# Altium footprint library Enc_Panasonic_EVQ-V4300418B_eec_0.PcbLib: 1 footprints
Each footprint in its own frame and in the unit in brackets; x right, y up, seen from the top. Pads: shape width x height; smd on the part's side, far side on the other; paste and mask are expansions set on the pad; w line width, h text height; cw(c..) or ccw(c..) is an arc to the next point about the centre after c.
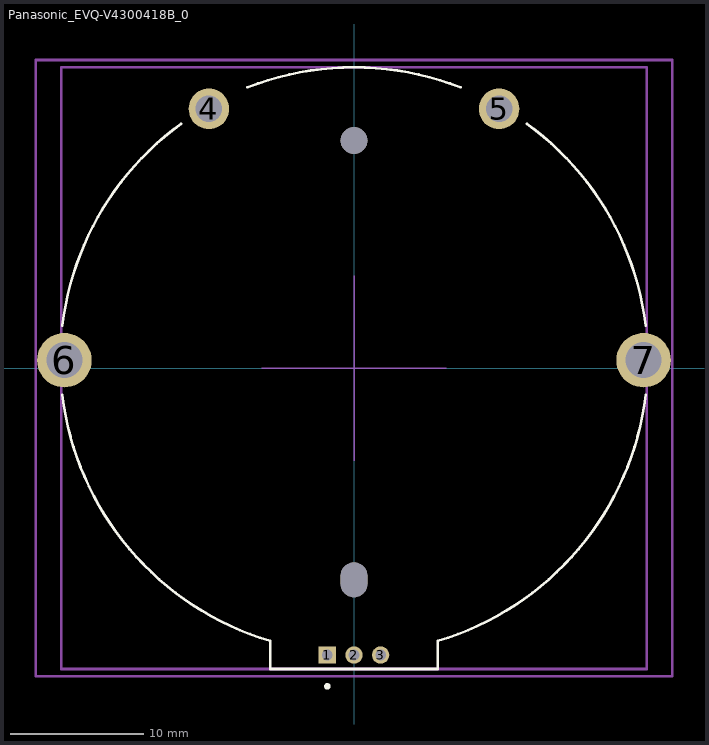
[diagram p0: the footprint, top view; thin cyan lines are the x and y axes]

## Panasonic_EVQ-V4300418B_0 [mm]
pads (9):
  rect 1.3x1.3 hole 0.8 paste-1000 mask+0: 1(-2,-21.55)
  round 1.3 hole 0.8 paste-1000 mask+0: 2(0,-21.55) 3(2,-21.55)
  round 3.05 hole 2 paste-1000 mask+0: 4(-10.9,19.479) 5(10.9,19.479)
  round 4.1 hole 2.7 paste-1000 mask+0: 6(-21.75,0.6) 7(21.75,0.6)
  rrect100% 2x2.6 hole 2.6 slot 2 at 0 deg unplated paste-1000 mask+0: ""(0,-15.9)
  round 2 hole 2 unplated paste-1000 mask+0: ""(0,17.1)
Top Overlay:
  circle w0.25: c-2,-23.9 r0.125
  lines w0.2: -21.909,-2 ccw(c-0.065,0.619) -6.3,-20.479 -6.3,-22.6 6.3,-22.6 6.3,-20.479 ccw(c0.065,0.619) 21.909,-2 ; -21.909,3.2 cw(c-0.069,0.55) -13,18.348 ; -8,21.094 cw(c0,0.6) 8,21.094 ; 13,18.348 cw(c0.069,0.55) 21.909,3.2
Mechanical 10:
  lines w0.2: -23.9,-23.15 23.9,-23.15 23.9,23.15 -23.9,23.15 -23.9,-23.15
  text ".Designator" at 0,0.188 h1
Mechanical 12:
  lines w0.2: -22,-22.6 22,-22.6 22,22.6 -22,22.6 -22,-22.6
Mechanical 15:
  lines w0.1: -6.945,0 6.945,0 ; 0,-6.945 0,6.945
  lines w0.2: -23.9,-23.15 23.9,-23.15 23.9,23.15 -23.9,23.15 -23.9,-23.15
3D body "Enc_Panasonic_EVQ-V4300418B_eec.STEP": height 0.25, standoff 0, extent -23.9,-23.15 23.9,23.15